# Altium footprint library PcbLib1.PcbLib: 20 footprints (part 1 of 2)
Each footprint in its own frame and in the unit in brackets; x right, y up, seen from the top. Pads: shape width x height; smd on the part's side, far side on the other; paste and mask are expansions set on the pad; w line width, h text height; cw(c..) or ccw(c..) is an arc to the next point about the centre after c.
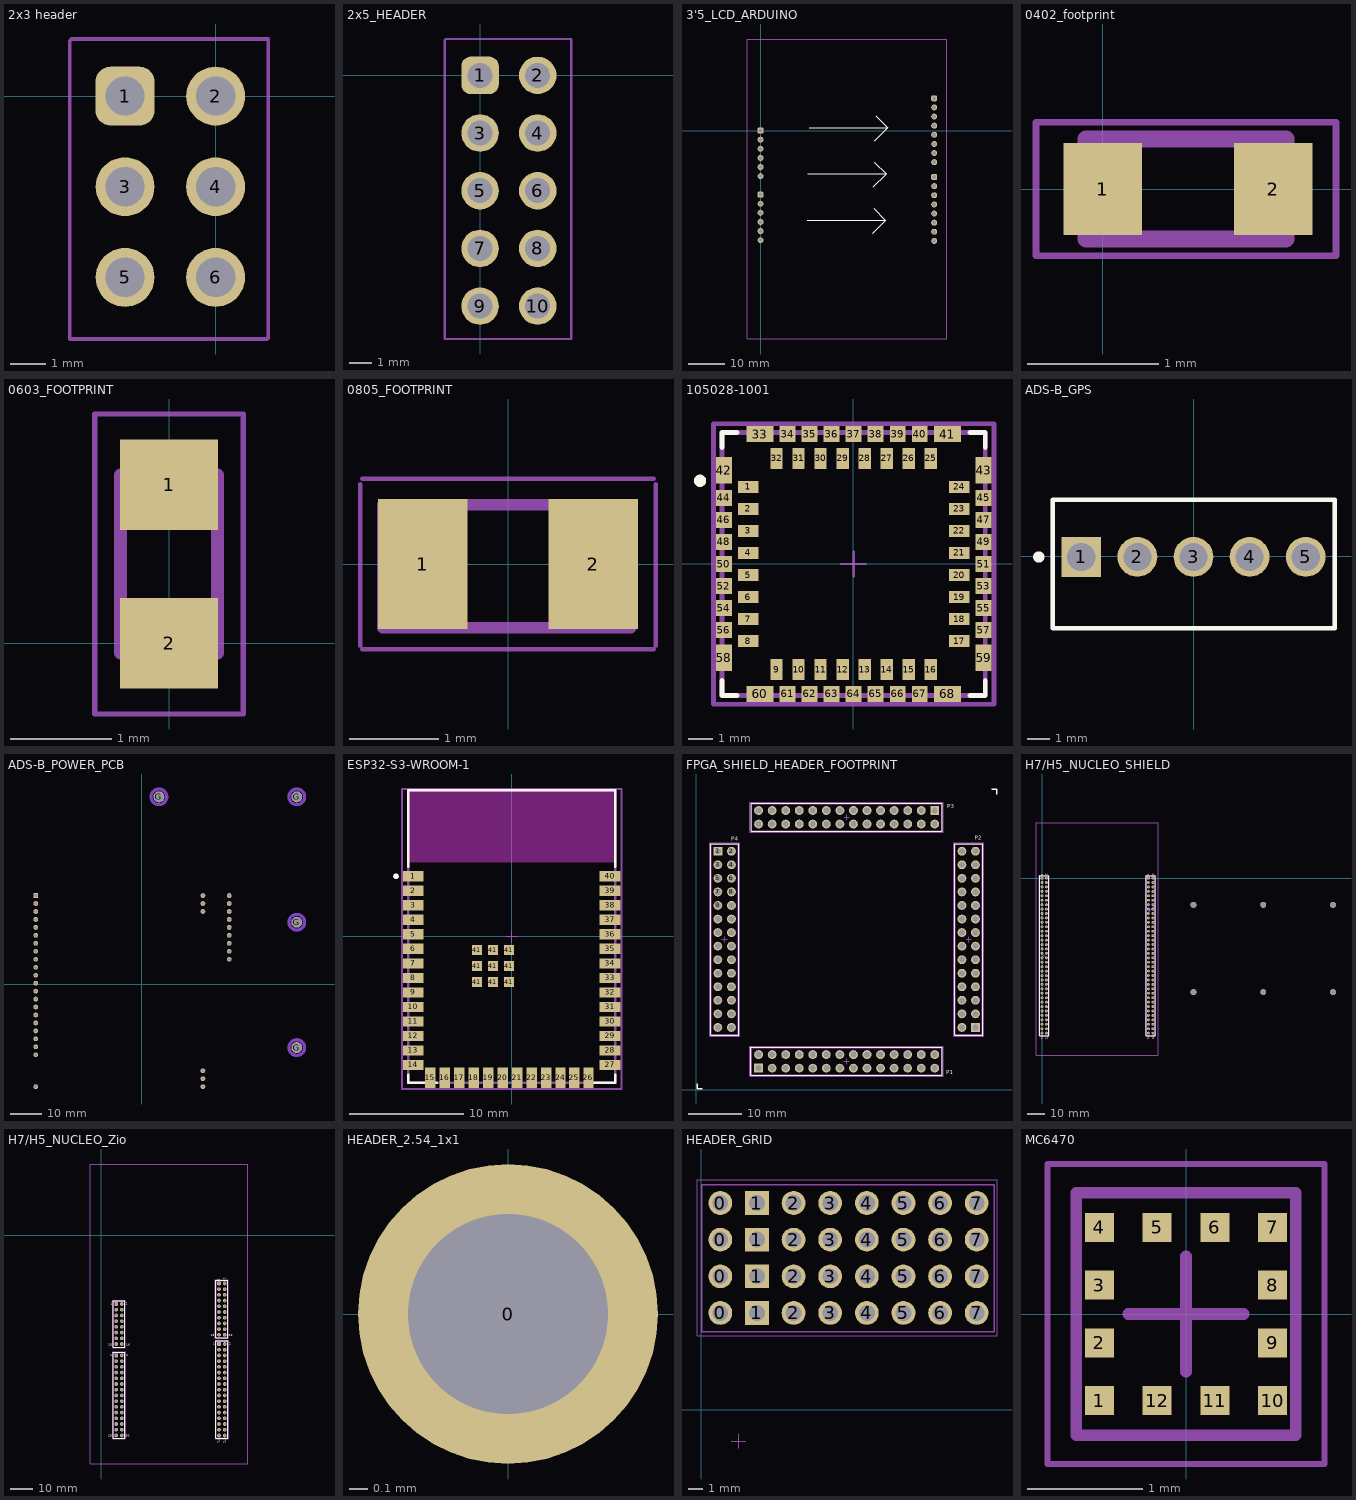
[diagram p0: the footprints below, top view; thin cyan lines are the x and y axes]

## 2x3 header [mm]
pads (6):
  rrect50% 1.65x1.65 hole 1.1: 1(-2.54,0)
  round 1.65 hole 1.1: 2(0,0) 3(-2.54,-2.54) 4(0,-2.54) 5(-2.54,-5.08) 6(0,-5.08)
Top Courtyard:
  lines w0.1: -4.089,-6.807 -4.089,1.549 -4.039,1.6 1.473,1.6 1.473,-6.782 1.448,-6.807 -4.089,-6.807

## 2x5_HEADER [mm]
pads (10):
  rrect50% 1.65x1.65 hole 1.1: 1(0,0)
  round 1.65 hole 1.1: 2(2.54,0) 3(0,-2.54) 4(2.54,-2.54) 5(0,-5.08) 6(2.54,-5.08) 7(0,-7.62) 8(2.54,-7.62) 9(0,-10.16) 10(2.54,-10.16)
Top Courtyard:
  lines w0.1: -1.549,-11.608 4.013,-11.608 4.013,1.6 -1.499,1.6 -1.549,1.549 -1.549,-11.608

## 3'5_LCD_ARDUINO [mm]
pads (28):
  rrect50% 1.65x1.65 hole 1.1: 1(0,0) 7(0,-17.83) 13(48.32,8.97) 21(48.32,-12.94)
  round 1.65 hole 1.1: 2(0,-2.54) 3(0,-5.08) 4(0,-7.62) 5(0,-10.16) 6(0,-12.7) 8(0,-20.37) 9(0,-22.91) 10(0,-25.45) 11(0,-27.99) 12(0,-30.53) 14(48.32,6.43) 15(48.32,3.89) 16(48.32,1.35) 17(48.32,-1.19) 18(48.32,-3.73) 19(48.32,-6.27) 20(48.32,-8.81) 22(48.32,-15.48) 23(48.32,-18.02) 24(48.32,-20.56) 25(48.32,-23.1) 26(48.32,-25.64) 27(48.32,-28.18) 28(48.32,-30.72)
Top Overlay:
  lines w0.254: 13,-25 34.8,-25 ; 13.2,-12.1 35,-12.1 ; 13.6,0.8 35.4,0.8 ; 31.2,-28.6 34.75,-25.05 34.75,-25 31.5,-21.7 ; 31.4,-15.7 34.95,-12.15 34.95,-12.1 31.7,-8.8 ; 31.8,-2.8 35.35,0.75 35.35,0.8 32.1,4.1 ; 34.1,-25 34.8,-25 ; 34.3,-12.1 35,-12.1 ; 34.7,-25 34.8,-25 ; 34.7,0.8 35.4,0.8 ; 34.9,-12.1 35,-12.1 ; 35.3,0.8 35.4,0.8
Mechanical 1:
  lines w0.254: -3.75,-58.02 -3.75,25.47 51.88,25.47 51.88,-58.02 -3.75,-58.02

## 0402_footprint [mm]
pads (2):
  rect 0.6x0.7 smd: 1(0,0) 2(1.3,0)
Mechanical 1:
  lines w0.128: -0.127,-0.381 1.397,-0.381 1.397,0.381 -0.127,0.381 -0.127,-0.381
Mechanical 13:
  lines w0.1: -0.148,-0.243 -0.148,0.307
Mechanical 15:
  lines w0.05: -0.508,-0.508 -0.508,0.508 1.778,0.508 1.778,-0.508 -0.508,-0.508

## 0603_FOOTPRINT [mm]
pads (2):
  rect 0.97x0.9 smd: 1(0,1.57) 2(0,0)
Mechanical 13:
  lines w0.127: -0.48,-0.095 0.48,-0.095 0.48,1.665 -0.48,1.665 -0.48,-0.095
Mechanical 15:
  lines w0.05: -0.735,-0.7 0.735,-0.7 0.735,2.27 -0.735,2.27 -0.735,-0.7

## 0805_FOOTPRINT [mm]
pads (2):
  rect 1x1.45 smd: 1(-0.95,0) 2(0.95,0)
Mechanical 1:
  lines w0.128: -1.397,-0.711 1.372,-0.711 1.372,0.66 -1.397,0.66 -1.397,-0.711
Mechanical 15:
  lines w0.05: -1.65,-0.914 -1.65,0.889 ; -1.626,-0.95 1.626,-0.95 ; -1.626,0.95 1.626,0.95 ; 1.65,-0.914 1.65,0.889

## 105028-1001 [mm] "FLIR camera connector form molex"
pads (68):
  rect 0.84x0.5 smd paste+0 mask+0: 1(-4.29,3.15) 2(-4.29,2.25) 3(-4.29,1.35) 4(-4.29,0.45) 5(-4.29,-0.45) 6(-4.29,-1.35) 7(-4.29,-2.25) 8(-4.29,-3.15) 17(4.33,-3.15) 18(4.33,-2.25) 19(4.33,-1.35) 20(4.33,-0.45) 21(4.33,0.45) 22(4.33,1.35) 23(4.33,2.25) 24(4.33,3.15)
  rect 0.5x0.84 smd paste+0 mask+0: 9(-3.13,-4.31) 10(-2.23,-4.31) 11(-1.33,-4.31) 12(-0.43,-4.31) 13(0.47,-4.31) 14(1.37,-4.31) 15(2.27,-4.31) 16(3.17,-4.31) 25(3.17,4.31) 26(2.27,4.31) 27(1.37,4.31) 28(0.47,4.31) 29(-0.43,4.31) 30(-1.33,4.31) 31(-2.23,4.31) 32(-3.13,4.31)
  rect 1.1x0.65 smd paste+0 mask+0: 33(-3.81,5.305) 41(3.85,5.305) 60(-3.81,-5.305) 68(3.85,-5.305)
  rect 0.65x0.65 smd paste+0 mask+0: 34(-2.68,5.305) 35(-1.78,5.305) 36(-0.88,5.305) 37(0.02,5.305) 38(0.92,5.305) 39(1.82,5.305) 40(2.72,5.305) 44(-5.285,2.7) 45(5.325,2.7) 46(-5.285,1.8) 47(5.325,1.8) 48(-5.285,0.9) 49(5.325,0.9) 50(-5.285,0) 51(5.325,0) 52(-5.285,-0.9) 53(5.325,-0.9) 54(-5.285,-1.8) 55(5.325,-1.8) 56(-5.285,-2.7) 57(5.325,-2.7) 61(-2.68,-5.305) 62(-1.78,-5.305) 63(-0.88,-5.305) 64(0.02,-5.305) 65(0.92,-5.305) 66(1.82,-5.305) 67(2.72,-5.305)
  rect 0.65x1.1 smd paste+0 mask+0: 42(-5.285,3.83) 43(5.325,3.83) 58(-5.285,-3.83) 59(5.325,-3.83)
Top Overlay:
  circle w0.25: c-6.255,3.4 r0.125
  lines w0.2: -5.355,-4.755 -5.355,-5.375 -4.735,-5.375 ; -5.355,4.755 -5.355,5.375 -4.735,5.375 ; 4.775,-5.375 5.395,-5.375 5.395,-4.755 ; 4.775,5.375 5.395,5.375 5.395,4.755
  text ".Designator" at -9.146,6.862 h1.52
Top 3D Body:
  lines w0.2: -5.355,-5.375 5.395,-5.375 5.395,5.375 -5.355,5.375 -5.355,-5.375
Top Courtyard:
  lines w0.2: -5.71,-5.73 5.75,-5.73 5.75,5.73 -5.71,5.73 -5.71,-5.73
Top Assembly:
  lines w0.2: -5.71,-5.73 5.75,-5.73 5.75,5.73 -5.71,5.73 -5.71,-5.73
Top Component Center:
  lines w0.1: -0.48,0 0.52,0 ; 0.02,-0.5 0.02,0.5
3D body "Conn_Molex_1050281001_eec.STEP": height 0.25, standoff 0, extent -5.71,-5.73 5.75,5.73

## ADS-B_GPS [mm]
pads (5):
  rect 1.8x1.8 hole 1.27 paste-2539.97: 1(-5.092,-0.04)
  round 1.8 hole 1.27 paste-2539.97: 2(-2.552,-0.04) 3(-0.012,-0.04) 4(2.528,-0.04) 5(5.068,-0.04)
Top Overlay:
  circle w0.25: c-7.014,-0.04 r0.127
  lines w0.2: -6.392,-3.278 -6.392,2.54 6.375,2.54 6.375,-3.278 -6.392,-3.278
Mechanical 13:
  lines w0.1: -6.362,-3.22 -6.362,2.5 6.338,2.5 6.338,-3.22 -6.362,-3.22
Mechanical 15:
  lines w0.05: -6.462,-3.32 6.438,-3.32 6.438,2.6 -6.462,2.6 -6.462,-3.32
  lines w0.1: -0.512,-0.04 0.488,-0.04 ; -0.012,-0.54 -0.012,0.46
3D body "c-640456-5-aa-3d.stp": height 10.29, standoff -3.3, extent -6.362,-3.215 6.338,2.627

## ADS-B_POWER_PCB [mm]
pads (41):
  rect 1.508x1.508 hole 1: 1(-33.872,28.29)
  round 1.508 hole 1: 2(-33.872,25.75) 3(-33.872,23.21) 4(-33.872,20.67) 5(-33.872,18.13) 6(-33.872,15.59) 7(-33.872,13.05) 8(-33.872,10.51) 9(-33.872,7.97) 10(-33.872,5.43) 11(-33.872,2.89) 12(-33.872,0.35) 13(-33.872,-2.19) 14(-33.872,-4.73) 15(-33.872,-7.27) 16(-33.872,-9.81) 17(-33.872,-12.35) 18(-33.872,-14.89) 19(-33.872,-17.43) 20(-33.872,-19.97) 21(-33.872,-22.51) 25(-33.872,-32.67) 26(19.468,28.29) 27(19.468,25.75) 28(19.468,23.21) 35(19.468,-27.59) 36(19.468,-30.13) 37(19.468,-32.67) 38(27.868,28.29) 39(27.868,25.75) 40(27.868,23.21) 41(27.868,20.67) 42(27.868,18.13) 43(27.868,15.59) 44(27.868,13.05) 45(27.868,10.51) 46(27.868,7.97)
  round 3.5 hole 3.2: G(5.428,59.79) G(49.428,-20.21) G(49.428,19.79) G(49.428,59.79)
Top Layer keep-out:
  circle w1: c49.428,19.79 r2.5
  circle w1: c49.428,-20.21 r2.5
  circle w1: c49.428,59.79 r2.5
  circle w1: c5.428,59.79 r2.5
Bottom Layer keep-out:
  circle w1: c49.428,-20.21 r2.5
  circle w1: c49.428,19.79 r2.5
  circle w1: c49.428,59.79 r2.5
  circle w1: c5.428,59.79 r2.5

## ESP32-S3-WROOM-1 [mm]
pads (49):
  rect 1.8x0.9 smd paste+0 mask+0: 1(-8.602,5.264) 2(-8.602,3.994) 3(-8.602,2.724) 4(-8.602,1.454) 5(-8.602,0.184) 6(-8.602,-1.086) 7(-8.602,-2.356) 8(-8.602,-3.626) 9(-8.602,-4.896) 10(-8.602,-6.166) 11(-8.602,-7.436) 12(-8.602,-8.706) 13(-8.602,-9.976) 14(-8.602,-11.246) 27(8.598,-11.246) 28(8.598,-9.976) 29(8.598,-8.706) 30(8.598,-7.436) 31(8.598,-6.166) 32(8.598,-4.896) 33(8.598,-3.626) 34(8.598,-2.356) 35(8.598,-1.086) 36(8.598,0.184) 37(8.598,1.454) 38(8.598,2.724) 39(8.598,3.994) 40(8.598,5.264)
  rect 0.9x1.8 smd paste+0 mask+0: 15(-7.131,-12.346) 16(-5.861,-12.346) 17(-4.591,-12.346) 18(-3.321,-12.346) 19(-2.051,-12.346) 20(-0.781,-12.346) 21(0.489,-12.346) 22(1.759,-12.346) 23(3.029,-12.346) 24(4.271,-12.346) 25(5.469,-12.346) 26(6.712,-12.346)
  rect 0.9x0.9 smd paste+0 mask+0: 41(-3.04,-3.991) 41(-3.04,-2.591) 41(-3.04,-1.191) 41(-1.64,-3.991) 41(-1.64,-2.591) 41(-1.64,-1.191) 41(-0.24,-3.991) 41(-0.24,-2.591) 41(-0.24,-1.191)
Top Overlay:
  circle w0.25: c-10.127,5.264 r0.125
  lines w0.2: -9.052,-12.071 -9.052,-12.796 -6.542,-12.796 ; -9.052,6.089 -9.052,12.804 9.048,12.804 9.048,6.089 ; 6.538,-12.796 9.048,-12.796 9.048,-12.071
Keep-Out Layer:
  rectangle: -9.002,6.454 8.998,12.754
  rectangle: -9.002,6.454 8.998,12.754
Top 3D Body:
  lines w0.2: -9.052,-12.796 9.048,-12.796 9.048,12.804 -9.052,12.804 -9.052,-12.796
Top Courtyard:
  lines w0.2: -9.602,-13.346 9.598,-13.346 9.598,12.904 -9.602,12.904 -9.602,-13.346
Top Assembly:
  lines w0.2: -9.602,-13.346 9.598,-13.346 9.598,12.904 -9.602,12.904 -9.602,-13.346
  text ".Designator" at -0.002,-0.033 h1
Top Component Center:
  lines w0.1: -0.502,0.004 0.498,0.004 ; -0.002,-0.496 -0.002,0.504
3D body "UNK_Espressif_Systems_ESP32-WROOM-32_eec.STEP": height 0.25, standoff 0, extent -9.602,-13.346 9.598,12.904

## FPGA_SHIELD_HEADER_FOOTPRINT [mm]
pads (112):
  rect 1.65x1.65 hole 1.1: 1(4.04,44.685) 56(44.689,52.321) 84(52.318,11.665) 85(11.666,4.04)
  round 1.65 hole 1.1: 2(6.58,44.685) 3(4.04,42.145) 4(6.58,42.145) 5(4.04,39.605) 6(6.58,39.605) 7(4.04,37.065) 8(6.58,37.065) 9(4.04,34.525) 10(6.58,34.525) 11(4.04,31.985) 12(6.58,31.985) 13(4.04,29.445) 14(6.58,29.445) 15(4.04,26.905) 16(6.58,26.905) 17(4.04,24.365) 18(6.58,24.365) 19(4.04,21.825) 20(6.58,21.825) 21(4.04,19.285) 22(6.58,19.285) 23(4.04,16.745) 24(6.58,16.745) 25(4.04,14.205) 26(6.58,14.205) 27(4.04,11.665) 28(6.58,11.665) 29(11.669,49.781) 30(11.669,52.321) 31(14.209,49.781) 32(14.209,52.321) 33(16.749,49.781) 34(16.749,52.321) 35(19.289,49.781) 36(19.289,52.321) 37(21.829,49.781) 38(21.829,52.321) 39(24.369,49.781) 40(24.369,52.321) 41(26.909,49.781) 42(26.909,52.321) 43(29.449,49.781) 44(29.449,52.321) 45(31.989,49.781) 46(31.989,52.321) 47(34.529,49.781) 48(34.529,52.321) 49(37.069,49.781) 50(37.069,52.321) 51(39.609,49.781) 52(39.609,52.321) 53(42.149,49.781) 54(42.149,52.321) 55(44.689,49.781) 57(49.778,44.685) 58(52.318,44.685) 59(49.778,42.145) 60(52.318,42.145) 61(49.778,39.605) 62(52.318,39.605) 63(49.778,37.065) 64(52.318,37.065) 65(49.778,34.525) 66(52.318,34.525) 67(49.778,31.985) 68(52.318,31.985) 69(49.778,29.445) 70(52.318,29.445) 71(49.778,26.905) 72(52.318,26.905) 73(49.778,24.365) 74(52.318,24.365) 75(49.778,21.825) 76(52.318,21.825) 77(49.778,19.285) 78(52.318,19.285) 79(49.778,16.745) 80(52.318,16.745) 81(49.778,14.205) 82(52.318,14.205) 83(49.778,11.665) 86(11.666,6.58) 87(14.206,4.04) 88(14.206,6.58) 89(16.746,4.04) 90(16.746,6.58) 91(19.286,4.04) 92(19.286,6.58) 93(21.826,4.04) 94(21.826,6.58) 95(24.366,4.04) 96(24.366,6.58) 97(26.906,4.04) 98(26.906,6.58) 99(29.446,4.04) 100(29.446,6.58) 101(31.986,4.04) 102(31.986,6.58) 103(34.526,4.04) 104(34.526,6.58) 105(37.066,4.04) 106(37.066,6.58) 107(39.606,4.04) 108(39.606,6.58) 109(42.146,4.04) 110(42.146,6.58) 111(44.686,4.04) 112(44.686,6.58)
Top Overlay:
  lines w0.2: 2.695,10.245 2.695,46.105 7.925,46.105 7.925,10.245 2.695,10.245 ; 10.246,2.695 10.246,7.925 46.106,7.925 46.106,2.695 10.246,2.695 ; 10.249,48.436 10.249,53.666 46.109,53.666 46.109,48.436 10.249,48.436 ; 48.433,10.245 48.433,46.105 53.663,46.105 53.663,10.245 48.433,10.245
  lines w0.254: 0.127,1.127 0.127,0.127 1.127,0.127 ; 55.351,56.351 56.351,56.351 56.351,55.351
  text "P3" at 47.015,52.73 h0.76
  text "P1" at 46.863,2.921 h0.76
  text "P2" at 52.146,46.812 h0.76
  text "P4" at 6.528,46.66 h0.76
Mechanical 13:
  lines w0.1: 2.77,10.395 2.77,45.955 7.85,45.955 7.85,10.395 2.77,10.395 ; 10.396,2.77 45.956,2.77 45.956,7.85 10.396,7.85 10.396,2.77 ; 10.399,48.511 10.399,53.591 45.959,53.591 45.959,48.511 10.399,48.511 ; 48.508,10.395 53.588,10.395 53.588,45.955 48.508,45.955 48.508,10.395
Mechanical 15:
  lines w0.05: 4.81,28.175 5.81,28.175 ; 5.31,27.675 5.31,28.675 ; 27.676,5.31 28.676,5.31 ; 27.679,51.051 28.679,51.051 ; 28.176,4.81 28.176,5.81 ; 28.179,50.551 28.179,51.551 ; 50.548,28.175 51.548,28.175 ; 51.048,27.675 51.048,28.675 ; 2.495,10.045 2.495,46.305 8.125,46.305 8.125,10.045 2.495,10.045 ; 10.046,2.495 10.046,8.125 46.306,8.125 46.306,2.495 10.046,2.495 ; 10.049,48.236 46.309,48.236 46.309,53.866 10.049,53.866 10.049,48.236 ; 48.233,10.045 48.233,46.305 53.863,46.305 53.863,10.045 48.233,10.045
3D body "61302821121.stp": height 8.59, standoff -2.95, extent 48.508,10.395 53.588,45.955
3D body "61302821121.stp": height 8.59, standoff -2.95, extent 10.399,48.511 45.959,53.591
3D body "61302821121.stp": height 8.59, standoff -2.95, extent 10.396,2.77 45.956,7.85
3D body "61302821121.stp": height 8.59, standoff -2.95, extent 2.77,10.395 7.85,45.955

## H7/H5_NUCLEO_SHIELD [mm]
pads (150):
  rrect50% 1.65x1.65 hole 1.1: 1(-0.04,0) 73(60.921,0)
  round 1.65 hole 1.1: 2(2.5,0) 3(-0.04,-2.54) 4(2.5,-2.54) 5(-0.04,-5.08) 6(2.5,-5.08) 7(-0.04,-7.62) 8(2.5,-7.62) 9(-0.04,-10.16) 10(2.5,-10.16) 11(-0.04,-12.7) 12(2.5,-12.7) 13(-0.04,-15.24) 14(2.5,-15.24) 15(-0.04,-17.78) 16(2.5,-17.78) 17(-0.04,-20.32) 18(2.5,-20.32) 19(-0.04,-22.86) 20(2.5,-22.86) 21(-0.04,-25.4) 22(2.5,-25.4) 23(-0.04,-27.94) 24(2.5,-27.94) 25(-0.04,-30.48) 26(2.5,-30.48) 27(-0.04,-33.02) 28(2.5,-33.02) 29(-0.04,-35.56) 30(2.5,-35.56) 31(-0.04,-38.1) 32(2.5,-38.1) 33(-0.04,-40.64) 34(2.5,-40.64) 35(-0.04,-43.18) 36(2.5,-43.18) 37(-0.04,-45.72) 38(2.5,-45.72) 39(-0.04,-48.26) 40(2.5,-48.26) 41(-0.04,-50.8) 42(2.5,-50.8) 43(-0.04,-53.34) 44(2.5,-53.34) 45(-0.04,-55.88) 46(2.5,-55.88) 47(-0.04,-58.42) 48(2.5,-58.42) 49(-0.04,-60.96) 50(2.5,-60.96) 51(-0.04,-63.5) 52(2.5,-63.5) 53(-0.04,-66.04) 54(2.5,-66.04) 55(-0.04,-68.58) 56(2.5,-68.58) 57(-0.04,-71.12) 58(2.5,-71.12) 59(-0.04,-73.66) 60(2.5,-73.66) 61(-0.04,-76.2) 62(2.5,-76.2) 63(-0.04,-78.74) 64(2.5,-78.74) 65(-0.04,-81.28) 66(2.5,-81.28) 67(-0.04,-83.82) 68(2.5,-83.82) 69(-0.04,-86.36) 70(2.5,-86.36) 71(-0.04,-88.9) 72(2.5,-88.9) 74(63.46,0) 75(60.921,-2.54) 76(63.46,-2.54) 77(60.92,-5.08) 78(63.46,-5.08) 79(60.92,-7.62) 80(63.46,-7.62) 81(60.92,-10.16) 82(63.46,-10.16) 83(60.92,-12.7) 84(63.46,-12.7) 85(60.92,-15.24) 86(63.46,-15.24) 87(60.92,-17.78) 88(63.46,-17.78) 89(60.92,-20.32) 90(63.46,-20.32) 91(60.92,-22.86) 92(63.46,-22.86) 93(60.92,-25.4) 94(63.46,-25.4) 95(60.92,-27.94) 96(63.46,-27.94) 97(60.92,-30.48) 98(63.46,-30.48) 99(60.92,-33.02) 100(63.46,-33.02) 101(60.92,-35.56) 102(63.46,-35.56) 103(60.92,-38.1) 104(63.46,-38.1) 105(60.92,-40.64) 106(63.46,-40.64) 107(60.92,-43.18) 108(63.46,-43.18) 109(60.92,-45.72) 110(63.46,-45.72) 111(60.92,-48.26) 112(63.46,-48.26) 113(60.92,-50.8) 114(63.46,-50.8) 115(60.92,-53.34) 116(63.46,-53.34) 117(60.92,-55.88) 118(63.46,-55.88) 119(60.92,-58.42) 120(63.46,-58.42) 121(60.92,-60.96) 122(63.46,-60.96) 123(60.92,-63.5) 124(63.46,-63.5) 125(60.92,-66.04) 126(63.46,-66.04) 127(60.92,-68.58) 128(63.46,-68.58) 129(60.92,-71.12) 130(63.46,-71.12) 131(60.92,-73.66) 132(63.46,-73.66) 133(60.92,-76.2) 134(63.46,-76.2) 135(60.92,-78.74) 136(63.46,-78.74) 137(60.92,-81.28) 138(63.46,-81.28) 139(60.92,-83.82) 140(63.46,-83.82) 141(60.92,-86.36) 142(63.46,-86.36) 143(60.92,-88.9) 144(63.46,-88.9)
  round 3.4 hole 3.2: G(86.772,-65.357) G(86.772,-15.357) G(126.772,-65.357) G(126.772,-15.357) G(166.772,-65.357) G(166.772,-15.357)
Top Overlay:
  lines w0.2: -1.385,-90.32 -1.385,1.42 3.845,1.42 3.845,-90.32 -1.385,-90.32 ; 59.575,-90.32 64.805,-90.32 64.805,1.42 59.575,1.42 59.575,-90.32
  text "71" at 60.39,-90.63 h1.02
  text "2" at 63.09,2.43 h1.02
  text "72" at 63.09,-90.63 h1.02
  text "1" at 60.39,2.13 h1.02
  text "2" at 2.13,2.43 h1.02
  text "1" at -0.57,2.13 h1.02
  text "72" at 2.13,-90.63 h1.02
  text "71" at -0.57,-90.63 h1.02
Mechanical 1:
  lines w0.254: -3.5,31.7 -3.5,-101.6 66.5,-101.6 66.5,31.7 ; -3.5,31.74 66.5,31.74
Top 3D Body:
  lines w0.1: -1.31,-90.17 3.77,-90.17 3.77,1.27 -1.31,1.27 -1.31,-90.17 ; 59.65,-90.17 59.65,1.27 64.73,1.27 64.73,-90.17 59.65,-90.17
Top Courtyard:
  lines w0.05: 0.73,-44.45 1.73,-44.45 ; 1.23,-44.95 1.23,-43.95 ; -1.585,-90.52 -1.585,1.62 4.045,1.62 4.045,-90.52 -1.585,-90.52 ; 59.375,-90.52 65.005,-90.52 65.005,1.62 59.375,1.62 59.375,-90.52
Board:
  lines w0.128: 3.846,-12.192 3.846,-10.668 ; 64.806,-12.192 64.806,-10.668
Top Component Outline:
  lines w0.1: -1.31,-90.17 3.77,-90.17 3.77,1.27 -1.31,1.27 -1.31,-90.17 ; 59.65,-90.17 64.73,-90.17 64.73,1.27 64.73,-15.57 59.65,-20.65 59.65,-90.17
Top Designator:
  text ".Designator" at 61.69,-36.952 h1.5
  text ".Designator" at 0.73,-36.952 h1.5
3D body "61307221121.stp": height 8.59, standoff -2.95, extent -1.31,-90.17 3.77,1.27
3D body "61307221121.stp": height 8.59, standoff -2.95, extent 59.65,-90.17 64.73,1.27

## H7/H5_NUCLEO_Zio [mm]
pads (100):
  rrect50% 1.65x1.65 hole 1.1: 1(6.56,-30.48) 17(6.56,-53.34) 47(52.28,-21.336) 67(52.28,-48.26)
  round 1.65 hole 1.1: 2(9.1,-30.48) 3(6.56,-33.02) 4(9.1,-33.02) 5(6.56,-35.56) 6(9.1,-35.56) 7(6.56,-38.1) 8(9.1,-38.1) 9(6.56,-40.64) 10(9.1,-40.64) 11(6.56,-43.18) 12(9.1,-43.18) 13(6.56,-45.72) 14(9.1,-45.72) 15(6.56,-48.26) 16(9.1,-48.26) 18(9.1,-53.34) 19(6.56,-55.88) 20(9.1,-55.88) 21(6.56,-58.42) 22(9.1,-58.42) 23(6.56,-60.96) 24(9.1,-60.96) 25(6.56,-63.5) 26(9.1,-63.5) 27(6.56,-66.04) 28(9.1,-66.04) 29(6.56,-68.58) 30(9.1,-68.58) 31(6.56,-71.12) 32(9.1,-71.12) 33(6.56,-73.66) 34(9.1,-73.66) 35(6.56,-76.2) 36(9.1,-76.2) 37(6.56,-78.74) 38(9.1,-78.74) 39(6.56,-81.28) 40(9.1,-81.28) 41(6.56,-83.82) 42(9.1,-83.82) 43(6.56,-86.36) 44(9.1,-86.36) 45(6.56,-88.9) 46(9.1,-88.9) 48(54.82,-21.336) 49(52.28,-23.876) 50(54.82,-23.876) 51(52.28,-26.416) 52(54.82,-26.416) 53(52.28,-28.956) 54(54.82,-28.956) 55(52.28,-31.496) 56(54.82,-31.496) 57(52.28,-34.036) 58(54.82,-34.036) 59(52.28,-36.576) 60(54.82,-36.576) 61(52.28,-39.116) 62(54.82,-39.116) 63(52.28,-41.656) 64(54.82,-41.656) 65(52.28,-44.196) 66(54.82,-44.196) 68(54.82,-48.26) 69(52.28,-50.8) 70(54.82,-50.8) 71(52.28,-53.34) 72(54.82,-53.34) 73(52.28,-55.88) 74(54.82,-55.88) 75(52.28,-58.42) 76(54.82,-58.42) 77(52.28,-60.96) 78(54.82,-60.96) 79(52.28,-63.5) 80(54.82,-63.5) 81(52.28,-66.04) 82(54.82,-66.04) 83(52.28,-68.58) 84(54.82,-68.58) 85(52.28,-71.12) 86(54.82,-71.12) 87(52.28,-73.66) 88(54.82,-73.66) 89(52.28,-76.2) 90(54.82,-76.2) 91(52.28,-78.74) 92(54.82,-78.74) 93(52.28,-81.28) 94(54.82,-81.28) 95(52.28,-83.82) 96(54.82,-83.82) 97(52.28,-86.36) 98(54.82,-86.36) 99(52.28,-88.9) 100(54.82,-88.9)
Top Overlay:
  lines w0.2: 5.215,-49.8 10.445,-49.8 10.445,-29.06 5.215,-29.06 5.215,-49.78 ; 10.5,-90.18 10.5,-90.26 5.215,-90.26 5.215,-51.92 10.5,-51.92 10.5,-90.18 ; 10.5,-90.18 10.5,-90.18 ; 56.22,-45.556 56.22,-45.476 ; 56.22,-45.556 56.22,-19.916 50.92,-19.916 50.92,-45.556 56.22,-45.556 ; 56.22,-45.476 56.22,-45.476 ; 50.935,-90.18 50.935,-46.84 56.22,-46.84 56.22,-90.18 50.935,-90.18
  text "2" at 54.45,-18.906 h1.02
  text "1" at 51.75,-19.206 h1.02
  text "20" at 56.7,-44.78 h1.02
  text "19" at 48.72,-44.736 h1.02
  text "2" at 11.1,-53.68 h1.02
  text "1" at 4,-53.78 h1.02
  text "30" at 10.9,-89.48 h1.02
  text "29" at 3,-89.48 h1.02
  text "15" at 3,-48.98 h1.02
  text "16" at 11,-48.98 h1.02
  text "1" at 4.2,-30.88 h1.02
  text "2" at 10.8,-30.88 h1.02
  text "2" at 56.9,-48.68 h1.02
  text "1" at 49.82,-48.636 h1.02
  text "72" at 54.45,-90.49 h1.02
  text "71" at 51.75,-90.49 h1.02
Mechanical 1:
  lines w0.254: -4.94,31.7 -4.94,-101.6 65.06,-101.6 65.06,31.7 ; -4.94,31.74 65.06,31.74
Top Courtyard:
  lines w0.05: 5.015,-50 10.645,-50 ; 5.015,-49.98 5.015,-28.86 10.645,-28.86 10.645,-49.98 ; 10.7,-90.48 10.7,-51.72 5,-51.72 5,-90.46 10.7,-90.46 ; 50.72,-90.38 56.42,-90.38 56.42,-46.64 50.72,-46.64 50.72,-90.38 ; 50.72,-45.756 50.72,-19.716 56.42,-19.716 56.42,-45.756 50.72,-45.756
Board:
  lines w0.128: 10.446,-65.532 10.446,-64.008 ; 10.446,-42.672 10.446,-41.148 ; 56.166,-60.452 56.166,-58.928 ; 56.166,-33.528 56.166,-32.004
Top Component Outline:
  lines w0.1: 5.29,-90.18 5.29,-52.07 10.37,-52.07 10.37,-90.18 ; 5.29,-90.11 10.37,-90.11 ; 5.29,-49.68 5.29,-29.21 10.37,-29.21 10.37,-49.68 ; 5.29,-49.65 10.37,-49.65 ; 51.01,-90.1 51.01,-46.99 56.09,-46.99 56.09,-90.1 ; 51.01,-90.03 56.09,-90.03 ; 51.01,-45.576 51.01,-20.066 56.09,-20.066 56.09,-45.576 ; 51.01,-45.406 56.09,-45.406

## HEADER_2.54_1x1 [mm]
pads (1):
  round 1.65 hole 1.1: 0(0,0)

## HEADER_GRID [mm]
pads (32):
  round 1.65 hole 1.1: 0(1.314,6.697) 0(1.314,9.237) 0(1.314,11.777) 0(1.314,14.317) 2(6.394,6.697) 2(6.394,9.237) 2(6.394,11.777) 2(6.394,14.317) 3(8.934,6.697) 3(8.934,9.237) 3(8.934,11.777) 3(8.934,14.317) 4(11.474,6.697) 4(11.474,9.237) 4(11.474,11.777) 4(11.474,14.317) 5(14.014,6.697) 5(14.014,9.237) 5(14.014,11.777) 5(14.014,14.317) 6(16.554,6.697) 6(16.554,9.237) 6(16.554,11.777) 6(16.554,14.317) 7(19.094,6.697) 7(19.094,9.237) 7(19.094,11.777) 7(19.094,14.317)
  rect 1.65x1.65 hole 1.1: 1(3.854,6.697) 1(3.854,9.237) 1(3.854,11.777) 1(3.854,14.317)
Mechanical 13:
  lines w0.1: 0.046,5.4 20.3,5.4 20.3,15.587 0.046,15.587 0.046,5.4
Mechanical 15:
  lines w0.05: 2.084,-2.193 3.084,-2.193 ; 2.584,-2.693 2.584,-1.693 ; -0.3,5.1 -0.3,15.937 20.5,15.937 20.5,5.1 -0.3,5.1

## MC6470 [mm] "https://www.mouser.lt/datasheet/2/821/MC6470_Datasheet_APS_048_0033v1_7_1-3003085.pdf"
height 0.95
pads (12):
  rect 0.25x0.25 smd: 1(-0.75,-0.75) 2(-0.75,-0.25) 3(-0.75,0.25) 4(-0.75,0.75) 5(-0.25,0.75) 6(0.25,0.75) 7(0.75,0.75) 8(0.75,0.25) 9(0.75,-0.25) 10(0.75,-0.75) 11(0.25,-0.75) 12(-0.25,-0.75)
Top Courtyard:
  lines w0.05: -1.2,-1.3 1.2,-1.3 1.2,1.3 -1.2,1.3 -1.2,-1.3
  lines w0.1: -0.5,0 0.5,0 ; 0,-0.5 0,0.5
Top Assembly:
  lines w0.1: -0.95,-1.05 0.95,-1.05 0.95,1.05 -0.95,1.05 -0.95,-1.05
3D body "LGA12C50P4X4_190X210X95.step": height 0.95, standoff 0, extent -0.95,-1.05 0.95,1.05